# Altium schematic symbol library MB0052A.01.A.1.SchLib: 1 symbol
Pins are listed as number, name and electrical type; pins without a type are passive.

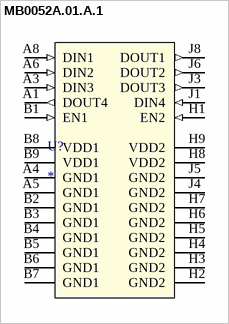
[diagram p0: symbol MB0052A.01.A.1]

## MB0052A.01.A.1
designator U?
pins: A1 DOUT4 (out), A3 DIN3 (in), A4 GND1 (power), A5 GND1 (power), A6 DIN2 (in), A8 DIN1 (in), B1 EN1 (in), B2 GND1 (power), B3 GND1 (power), B4 GND1 (power), B5 GND1 (power), B6 GND1 (power), B7 GND1 (power), B8 VDD1 (power), B9 VDD1 (power), H1 EN2 (in), H2 GND2 (power), H3 GND2 (power), H4 GND2 (power), H5 GND2 (power), H6 GND2 (power), H7 GND2 (power), H8 VDD2 (power), H9 VDD2 (power), J1 DIN4 (in), J3 DOUT3 (out), J4 GND2 (power), J5 GND2 (power), J6 DOUT2 (out), J8 DOUT1 (out)